# Altium footprint library LED.PcbLib: 48 footprints (part 2 of 3)
Each footprint in its own frame and in the unit in brackets; x right, y up, seen from the top. Pads: shape width x height; smd on the part's side, far side on the other; paste and mask are expansions set on the pad; w line width, h text height; cw(c..) or ccw(c..) is an arc to the next point about the centre after c.
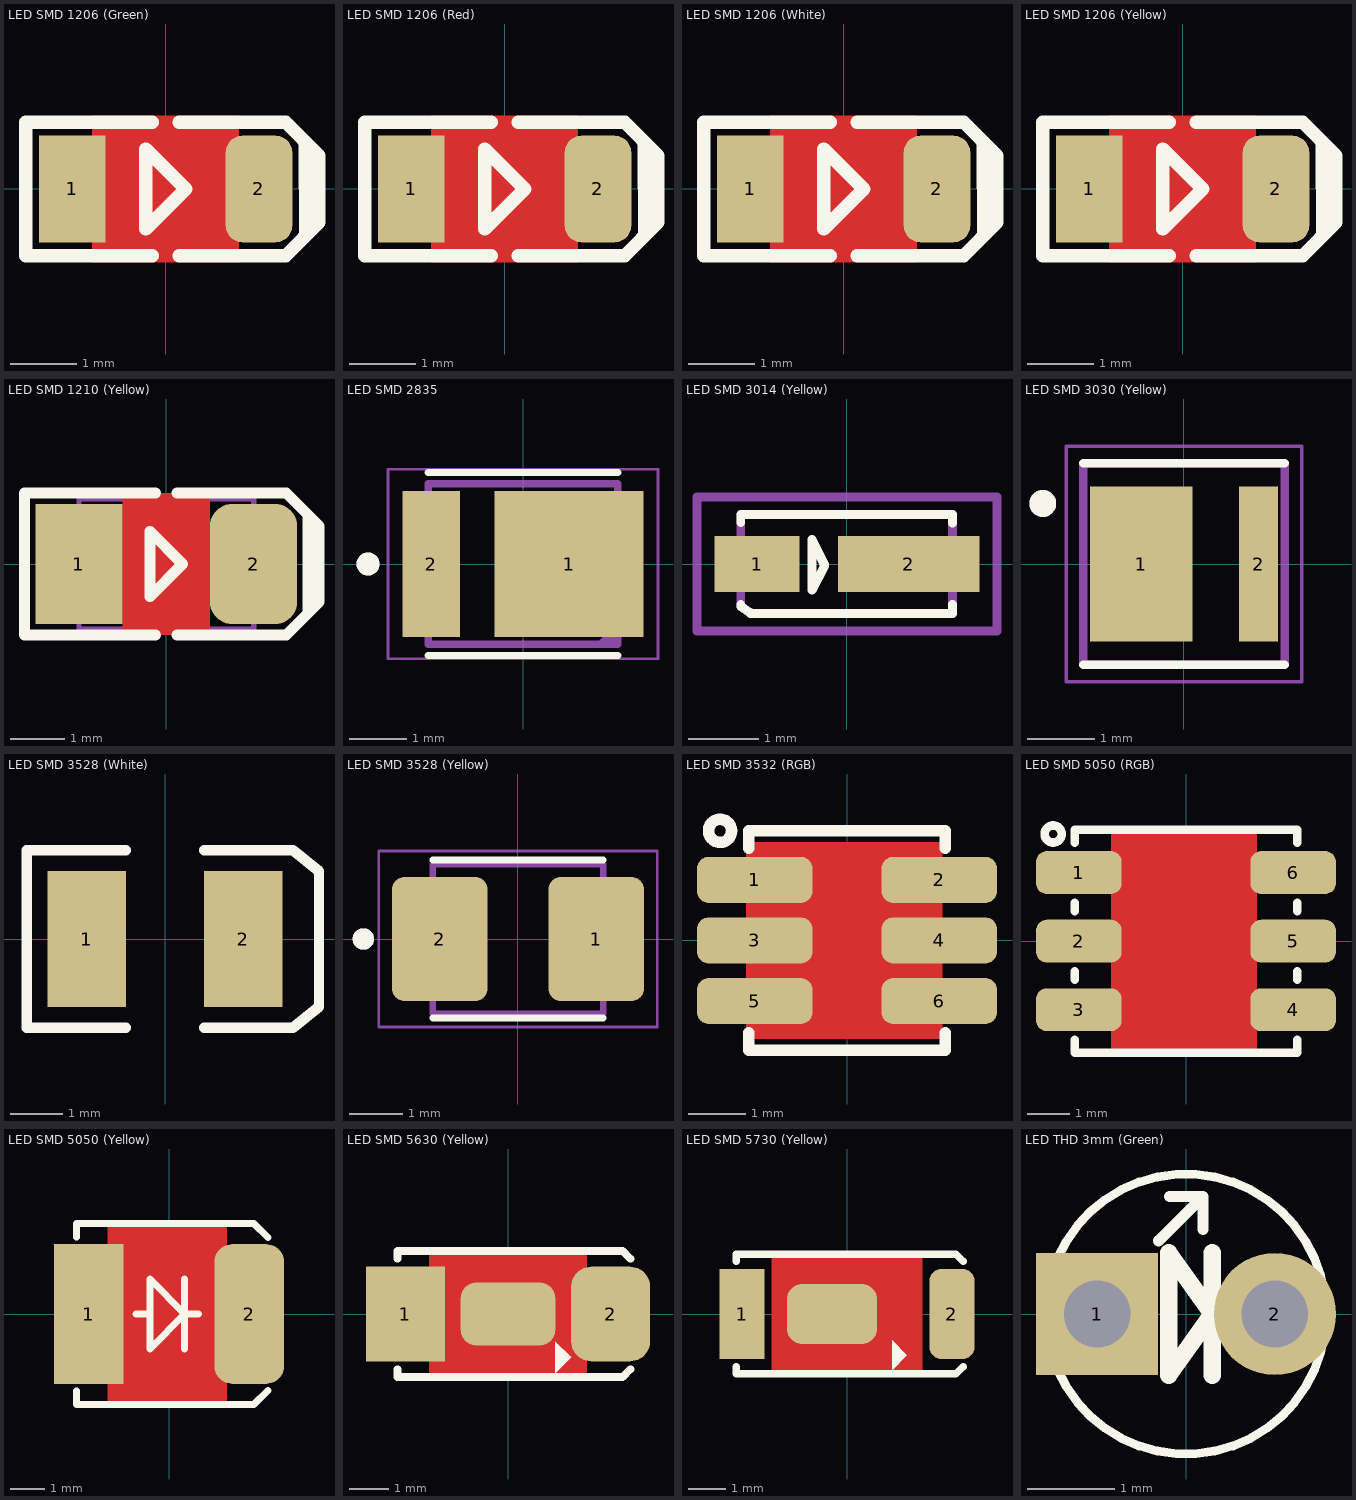
[diagram p1: the footprints below, top view; thin cyan lines are the x and y axes]

## LED SMD 1206 (Green) [mm]
pads (2):
  rect 1x1.6 smd mask+0.075: 1(-1.4,0)
  rrect50% 1x1.6 smd mask+0.075: 2(1.4,0)
Top Layer:
  pour cut-out: -1.1,1.1 -1.1,-1.1 1.1,-1.1 1.1,1.1
Top Overlay:
  region: 2,0.7 2,-0.7 2.3,-0.4 2.3,0.4
  lines w0.2: -0.2,-1 -2.1,-1 -2.1,1 -0.2,1 ; 0.2,-1 1.8,-1 2.3,-0.5 2.3,0.5 1.8,1 0.2,1 ; -0.3,-0.6 -0.3,0.6 0.3,0 -0.3,-0.6
3D body "User Library-Wurth Elektronik WL-SMCW 1206 (3216) LED Base (Separate Lens).step": height 0.62, standoff 0, extent -1.6,-0.8 1.6,0.8
3D body "User Library-Wurth Elektronik WL-SMCW 1206 (3216) LED Lens (Separate Body).step": height 0.68, standoff 0.28, extent -1,-0.8 1,0.8

## LED SMD 1206 (Red) [mm]
pads (2):
  rect 1x1.6 smd mask+0.075: 1(-1.4,0)
  rrect50% 1x1.6 smd mask+0.075: 2(1.4,0)
Top Layer:
  pour cut-out: -1.1,1.1 -1.1,-1.1 1.1,-1.1 1.1,1.1
Top Overlay:
  region: 2,0.7 2,-0.7 2.3,-0.4 2.3,0.4
  lines w0.2: -0.2,-1 -2.1,-1 -2.1,1 -0.2,1 ; 0.2,-1 1.8,-1 2.3,-0.5 2.3,0.5 1.8,1 0.2,1 ; -0.3,-0.6 -0.3,0.6 0.3,0 -0.3,-0.6
3D body "User Library-Wurth Elektronik WL-SMCW 1206 (3216) LED Base (Separate Lens).step": height 0.62, standoff 0, extent -1.6,-0.8 1.6,0.8
3D body "User Library-Wurth Elektronik WL-SMCW 1206 (3216) LED Lens (Separate Body).step": height 0.68, standoff 0.28, extent -1,-0.8 1,0.8

## LED SMD 1206 (White) [mm]
pads (2):
  rect 1x1.6 smd mask+0.075: 1(-1.4,0)
  rrect50% 1x1.6 smd mask+0.075: 2(1.4,0)
Top Layer:
  pour cut-out: -1.1,1.1 -1.1,-1.1 1.1,-1.1 1.1,1.1
Top Overlay:
  region: 2,0.7 2,-0.7 2.3,-0.4 2.3,0.4
  lines w0.2: -0.2,-1 -2.1,-1 -2.1,1 -0.2,1 ; 0.2,-1 1.8,-1 2.3,-0.5 2.3,0.5 1.8,1 0.2,1 ; -0.3,-0.6 -0.3,0.6 0.3,0 -0.3,-0.6
3D body "User Library-Wurth Elektronik WL-SMCW 1206 (3216) LED Base (Separate Lens).step": height 0.62, standoff 0, extent -1.6,-0.8 1.6,0.8
3D body "User Library-Wurth Elektronik WL-SMCW 1206 (3216) LED Lens (Separate Body).step": height 0.68, standoff 0.28, extent -1,-0.8 1,0.8

## LED SMD 1206 (Yellow) [mm]
pads (2):
  rect 1x1.6 smd mask+0.075: 1(-1.4,0)
  rrect50% 1x1.6 smd mask+0.075: 2(1.4,0)
Top Layer:
  pour cut-out: -1.1,1.1 -1.1,-1.1 1.1,-1.1 1.1,1.1
Top Overlay:
  region: 2,0.7 2,-0.7 2.3,-0.4 2.3,0.4
  lines w0.2: -0.2,-1 -2.1,-1 -2.1,1 -0.2,1 ; 0.2,-1 1.8,-1 2.3,-0.5 2.3,0.5 1.8,1 0.2,1 ; -0.3,-0.6 -0.3,0.6 0.3,0 -0.3,-0.6
3D body "User Library-Wurth Elektronik WL-SMCW 1206 (3216) LED Base (Separate Lens).step": height 0.62, standoff 0, extent -1.6,-0.8 1.6,0.8
3D body "User Library-Wurth Elektronik WL-SMCW 1206 (3216) LED Lens (Separate Body).step": height 0.68, standoff 0.28, extent -1,-0.8 1,0.8

## LED SMD 1210 (Yellow) [mm]
pads (2):
  rect 1.6x2.2 smd mask+0.075: 1(-1.6,0)
  rrect50% 1.6x2.2 smd mask+0.075: 2(1.6,0)
Top Layer:
  pour cut-out: -0.8,1.3 -0.8,-1.3 0.8,-1.3 0.8,1.3
Top Overlay:
  region: 2.5,1 2.5,-1 2.8,-0.7 2.8,0.7
  lines w0.2: -0.2,-1.3 -2.6,-1.3 -2.6,1.3 -0.2,1.3 ; 0.2,-1.3 2.2,-1.3 2.8,-0.7 2.8,0.7 2.2,1.3 0.2,1.3 ; -0.3,-0.6 0.3,0 -0.3,0.6 -0.3,-0.6
Mechanical 13:
  lines w0.1: -1.6,-1.2 -1.6,1.2 1.6,1.2 1.6,-1.2 -1.6,-1.2
3D body "User Library-led_1210.step": height 1.1, standoff -0.05, extent -1.62,-1.35 1.62,1.35

## LED SMD 2835 [mm]
pads (2):
  rect 2.6x2.55 smd: 1(0.8,0)
  rect 1x2.55 smd: 2(-1.6,0)
Top Overlay:
  circle w0.2: c-2.7,0 r0.1
  lines w0.127: -1.65,-1.595 1.65,-1.595 ; -1.65,1.595 1.65,1.595
Mechanical 13:
  circle w0.2: c-2.7,0 r0.1
  lines w0.127: 1.35,-1.4 1.45,-1.4 ; 1.35,-1.4 -1.65,-1.4 -1.65,1.4 1.65,1.4 1.65,-1.1 ; 1.35,-1.4 1.65,-1.1 ; 1.45,-1.4 1.65,-1.4 1.65,-1.2 ; 1.45,-1.4 1.65,-1.2 ; 1.65,-1.2 1.65,-1.1
Mechanical 15:
  lines w0.05: -2.35,-1.65 2.35,-1.65 2.35,1.65 -2.35,1.65 -2.35,-1.65
3D body "step_temp.STEP": height 0.75, standoff 0, extent -1.75,-1.4 1.75,1.4

## LED SMD 3014 (Yellow) [mm]
pads (2):
  rect 1.2x0.8 smd: 1(-1.27,0)
  rect 2x0.8 smd: 2(0.88,0)
Top Overlay:
  lines w0.127: -1.5,-0.6 -1.37,-0.69 ; -1.5,-0.58 -1.5,-0.57 ; -1.5,0.59 -1.5,0.7 1.5,0.7 1.5,0.58 ; -1.36,-0.7 -1.28,-0.7 ; -1.27,-0.7 1.5,-0.7 1.5,-0.57 ; -0.49,-0.37 -0.31,-0.02 -0.49,0.35 -0.49,-0.37
Mechanical 13:
  lines w0.127: -1.5,0.7 -1.5,-0.6 -1.37,-0.69 ; 1.5,-0.7 1.5,0.7
Mechanical 15:
  lines w0.127: -2.12,-0.95 2.13,-0.95 2.13,0.95 -2.12,0.95 -2.12,-0.95
3D body "LED SMD 3014.step": height 1, standoff -0.01, extent -1.459,-0.642 1.698,0.758

## LED SMD 3030 (Yellow) [mm]
pads (2):
  rect 1.53x2.3 smd paste-2 mask+0: 1(-0.635,0)
  rect 0.58x2.3 smd paste-2 mask+0: 2(1.11,0)
Top Overlay:
  circle w0.2: c-2.1,0.9 r0.1
  lines w0.127: -1.5,-1.5 1.5,-1.5 ; -1.5,1.5 1.5,1.5
Top Paste:
  region: 1.35,-1.1 0.87,-1.1 0.87,1.1 1.35,1.1
  region: 0.08,-1.05 -1.25,-1.05 -1.25,1.05 0.08,1.05
Top Solder:
  region: 0.13,-1.15 -1.4,-1.15 -1.4,1.15 0.13,1.15
  region: 1.4,-1.15 0.82,-1.15 0.82,1.15 1.4,1.15
Mechanical 13:
  circle w0.2: c-2.1,0.9 r0.1
  lines w0.127: -1.5,-1.5 1.5,-1.5 1.5,1.5 -1.5,1.5 -1.5,-1.5
Mechanical 15:
  lines w0.05: -1.75,-1.75 1.75,-1.75 1.75,1.75 -1.75,1.75 -1.75,-1.75
3D body "LED SMD 3030.step": height 0.51, standoff 0, extent -1.524,-1.524 1.524,1.524

## LED SMD 3528 (White) [mm]
pads (2):
  rect 1.5x2.6 smd: 1(-1.5,0) 2(1.5,0)
Top Overlay:
  lines w0.2: -0.75,-1.7 -2.65,-1.7 -2.65,1.7 -0.75,1.7 ; 0.75,-1.7 2.45,-1.7 2.95,-1.3 2.95,1.3 2.45,1.7 0.75,1.7
3D body "User Library-SFH320.STEP": height 2.1, standoff 0, extent -1.88,-1.5 1.88,1.5

## LED SMD 3528 (Yellow) [mm]
pads (2):
  rrect25% 1.79x2.32 smd: 1(1.465,0) 2(-1.465,0)
Top Overlay:
  circle w0.2: c-2.9,0 r0.1
  lines w0.127: -1.6,-1.48 1.6,-1.48 ; -1.6,1.48 1.6,1.48
Mechanical 13:
  circle w0.2: c-2.9,0 r0.1
  lines w0.127: -1.6,-1.4 1.6,-1.4 1.6,1.4 -1.6,1.4 -1.6,-1.4
Mechanical 15:
  lines w0.05: -2.61,-1.65 2.61,-1.65 2.61,1.65 -2.61,1.65 -2.61,-1.65
3D body "LED SMD 3528.step": height 1.9, standoff 0, extent -1.75,-1.4 1.75,1.4

## LED SMD 3532 (RGB) [mm]
pads (6):
  rrect50% 2x0.8 smd mask+0.075: 1(-1.6,1.05) 2(1.6,1.05) 3(-1.6,0) 4(1.6,0) 5(-1.6,-1.05) 6(1.6,-1.05)
Top Layer:
  pour cut-out: -1.75,1.7 1.65,1.7 1.65,-1.7 -1.75,-1.7
Top Overlay:
  circle w0.2: c-2.2,1.9 r0.2
  lines w0.2: -1.7,-1.6 -1.7,-1.9 1.7,-1.9 1.7,-1.6 ; -1.7,1.6 -1.7,1.9 1.7,1.9 1.7,1.6
3D body "User Library-LED_RGB_Osram_LRTB_G6SG.step": height 2.01, standoff 0, extent -1.8,-1.75 1.8,1.75

## LED SMD 5050 (RGB) [mm]
pads (6):
  rrect50% 2x1 smd mask+0.1: 1(-2.5,1.6) 2(-2.5,0) 3(-2.5,-1.6) 4(2.5,-1.6) 5(2.5,0) 6(2.5,1.6)
Top Layer:
  pour cut-out: -1.75,2.54 1.65,2.54 1.65,-2.54 -1.75,-2.54
Top Overlay:
  circle w0.2: c-3.1,2.5 r0.2
  lines w0.2: -2.6,-2.3 -2.6,-2.6 2.6,-2.6 2.6,-2.3 ; -2.6,-0.9 -2.6,-0.7 ; -2.6,0.7 -2.6,0.9 ; -2.6,2.3 -2.6,2.6 2.6,2.6 2.6,2.3 ; 2.6,-0.9 2.6,-0.7 ; 2.6,0.7 2.6,0.9
3D body "User Library-APA102C_RGB.step": height 1.55, standoff 0, extent -2.75,-2.5 2.75,2.5

## LED SMD 5050 (Yellow) [mm]
pads (2):
  rect 2x4 smd mask+0.1: 1(-2.3,0)
  rrect50% 2x4 smd mask+0.1: 2(2.3,0)
Top Layer:
  pour cut-out: -1.75,2.54 1.65,2.54 1.65,-2.54 -1.75,-2.54
Top Overlay:
  lines w0.2: -2.65,-2.2 -2.65,-2.6 2.43,-2.6 2.84,-2.19 ; -2.65,2.2 -2.65,2.6 2.43,2.6 2.84,2.19 ; -0.95,0 -0.55,0 ; 0.45,-1 0.45,1 ; 0.85,0 0.45,0 ; 0.45,0 -0.55,1 -0.55,-1 0.45,0
3D body "User Library-smd_led_5050.step": height 1.6, standoff 0, extent -2.65,-2.5 2.65,2.5

## LED SMD 5630 (Yellow) [mm]
pads (3):
  rect 2x2.4 smd mask+0.1: 1(-2.6,0)
  rrect50% 2x2.4 smd mask+0.1: 2(2.6,0)
  rrect50% 2.4x1.6 smd mask+0.075: ""(0,0)
Top Layer:
  pour cut-out: -2,1.6 2,1.6 2,-1.6 -2,-1.6
Top Overlay:
  region: 1.6,-1.1 1.2,-0.7 1.2,-1.5
  lines w0.2: -2.8,-1.4 -2.8,-1.6 2.9,-1.6 3.1,-1.4 ; -2.8,1.4 -2.8,1.6 2.9,1.6 3.1,1.4
3D body "User Library-LED_5630.step": height 0.86, standoff -0.04, extent -2.8,-1.5 2.8,1.5

## LED SMD 5730 (Yellow) [mm]
pads (3):
  rect 1.2x2.4 smd mask+0.1: 1(-2.8,0)
  rrect50% 1.2x2.4 smd mask+0.1: 2(2.8,0)
  rrect50% 2.4x1.6 smd mask+0.075: ""(-0.4,0)
Top Layer:
  pour cut-out: -2,1.6 2,1.6 2,-1.6 -2,-1.6
Top Overlay:
  region: 1.6,-1.1 1.2,-0.7 1.2,-1.5
  lines w0.2: -2.95,-1.4 -2.95,-1.6 2.9,-1.6 3.1,-1.4 ; -2.95,1.4 -2.95,1.6 2.9,1.6 3.1,1.4
3D body "User Library-PLCC-2white.step": height 0.9, standoff 0, extent -2.85,-1.5 2.85,1.5

## LED THD 3mm (Green) [mil]
pads (2):
  rect 55x55 hole 30: 1(-40,0)
  round 55 hole 30: 2(40,0)
Top Overlay:
  circle w3.94: c0,0 r62.99
  lines w5: -12.4,32.95 7.6,52.95 ; -7.4,52.95 7.6,52.95 ; 7.6,37.95 7.6,52.95
  lines w7.87: 11.81,-27.56 11.81,27.56 ; -7.87,-27.56 11.81,0 -7.87,27.56 -7.87,-27.56
3D body "LED.STEP": height 153.55, standoff -59.05, extent -68.89,-69 68.9,68.8